# Altium schematic symbol library SFH11-PBPC-D20-ST-BK.SchLib: 1 symbol
Pins are listed as number, name and electrical type; pins without a type are passive.

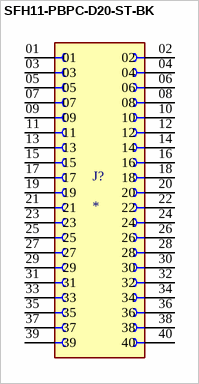
[diagram p0: symbol SFH11-PBPC-D20-ST-BK]

## SFH11-PBPC-D20-ST-BK
designator J?
MF: {'manufacturer': u'Sullins Connector'}; MP: SFH11-PBPC-D20-ST-BK; Package: None; Price: None; Value: *; Availability: Unavailable
footprint SULLINS_SFH11-PBPC-D20-ST-BK
pins: 01, 02, 03, 04, 05, 06, 07, 08, 09, 10, 11, 12, 13, 14, 15, 16, 17, 18, 19, 20, 21, 22, 23, 24, 25, 26, 27, 28, 29, 30, 31, 32, 33, 34, 35, 36, 37, 38, 39, 40